# Altium footprint library BGA (1.27mm Pitch, Square5).PcbLib: 12 footprints (part 2 of 6)
Each footprint in its own frame and in the unit in brackets; x right, y up, seen from the top. Pads: shape width x height; smd on the part's side, far side on the other; paste and mask are expansions set on the pad; w line width, h text height; cw(c..) or ccw(c..) is an arc to the next point about the centre after c.
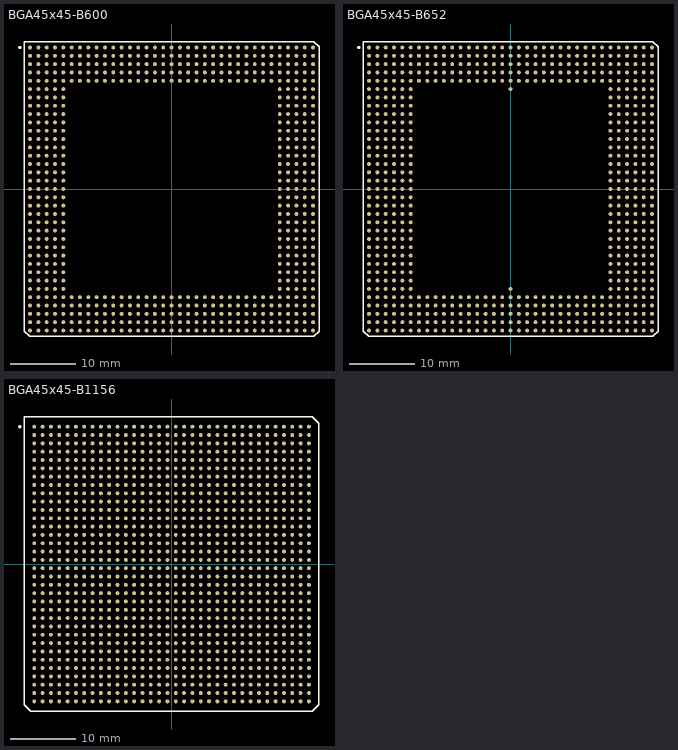
[diagram p1: the footprints below, top view; thin cyan lines are the x and y axes]

## BGA45x45-B600 [mm] "BGA; 600 Balls; Body 45 x 45 mm; Pitch 1.27 mm"
height 1.7
pads (600):
  round 0.6 smd: A1(-21.59,21.59) A2(-20.32,21.59) A3(-19.05,21.59) A4(-17.78,21.59) A5(-16.51,21.59) A6(-15.24,21.59) A7(-13.97,21.59) A8(-12.7,21.59) A9(-11.43,21.59) A10(-10.16,21.59) A11(-8.89,21.59) A12(-7.62,21.59) A13(-6.35,21.59) A14(-5.08,21.59) A15(-3.81,21.59) A16(-2.54,21.59) A17(-1.27,21.59) A18(0,21.59) A19(1.27,21.59) A20(2.54,21.59) A21(3.81,21.59) A22(5.08,21.59) A23(6.35,21.59) A24(7.62,21.59) A25(8.89,21.59) A26(10.16,21.59) A27(11.43,21.59) A28(12.7,21.59) A29(13.97,21.59) A30(15.24,21.59) A31(16.51,21.59) A32(17.78,21.59) A33(19.05,21.59) A34(20.32,21.59) A35(21.59,21.59) AA1(-21.59,-3.81) AA2(-20.32,-3.81) AA3(-19.05,-3.81) AA4(-17.78,-3.81) AA5(-16.51,-3.81) AA31(16.51,-3.81) AA32(17.78,-3.81) AA33(19.05,-3.81) AA34(20.32,-3.81) AA35(21.59,-3.81) AB1(-21.59,-5.08) AB2(-20.32,-5.08) AB3(-19.05,-5.08) AB4(-17.78,-5.08) AB5(-16.51,-5.08) AB31(16.51,-5.08) AB32(17.78,-5.08) AB33(19.05,-5.08) AB34(20.32,-5.08) AB35(21.59,-5.08) AC1(-21.59,-6.35) AC2(-20.32,-6.35) AC3(-19.05,-6.35) AC4(-17.78,-6.35) AC5(-16.51,-6.35) AC31(16.51,-6.35) AC32(17.78,-6.35) AC33(19.05,-6.35) AC34(20.32,-6.35) AC35(21.59,-6.35) AD1(-21.59,-7.62) AD2(-20.32,-7.62) AD3(-19.05,-7.62) AD4(-17.78,-7.62) AD5(-16.51,-7.62) AD31(16.51,-7.62) AD32(17.78,-7.62) AD33(19.05,-7.62) AD34(20.32,-7.62) AD35(21.59,-7.62) AE1(-21.59,-8.89) AE2(-20.32,-8.89) AE3(-19.05,-8.89) AE4(-17.78,-8.89) AE5(-16.51,-8.89) AE31(16.51,-8.89) AE32(17.78,-8.89) AE33(19.05,-8.89) AE34(20.32,-8.89) AE35(21.59,-8.89) AF1(-21.59,-10.16) AF2(-20.32,-10.16) AF3(-19.05,-10.16) AF4(-17.78,-10.16) AF5(-16.51,-10.16) AF31(16.51,-10.16) AF32(17.78,-10.16) AF33(19.05,-10.16) AF34(20.32,-10.16) AF35(21.59,-10.16) AG1(-21.59,-11.43) AG2(-20.32,-11.43) AG3(-19.05,-11.43) AG4(-17.78,-11.43) AG5(-16.51,-11.43) AG31(16.51,-11.43) AG32(17.78,-11.43) AG33(19.05,-11.43) AG34(20.32,-11.43) AG35(21.59,-11.43) AH1(-21.59,-12.7) AH2(-20.32,-12.7) AH3(-19.05,-12.7) AH4(-17.78,-12.7) AH5(-16.51,-12.7) AH31(16.51,-12.7) AH32(17.78,-12.7) AH33(19.05,-12.7) AH34(20.32,-12.7) AH35(21.59,-12.7) AJ1(-21.59,-13.97) AJ2(-20.32,-13.97) AJ3(-19.05,-13.97) AJ4(-17.78,-13.97) AJ5(-16.51,-13.97) AJ31(16.51,-13.97) AJ32(17.78,-13.97) AJ33(19.05,-13.97) AJ34(20.32,-13.97) AJ35(21.59,-13.97) AK1(-21.59,-15.24) AK2(-20.32,-15.24) AK3(-19.05,-15.24) AK4(-17.78,-15.24) AK5(-16.51,-15.24) AK31(16.51,-15.24) AK32(17.78,-15.24) AK33(19.05,-15.24) AK34(20.32,-15.24) AK35(21.59,-15.24) AL1(-21.59,-16.51) AL2(-20.32,-16.51) AL3(-19.05,-16.51) AL4(-17.78,-16.51) AL5(-16.51,-16.51) AL6(-15.24,-16.51) AL7(-13.97,-16.51) AL8(-12.7,-16.51) AL9(-11.43,-16.51) AL10(-10.16,-16.51) AL11(-8.89,-16.51) AL12(-7.62,-16.51) AL13(-6.35,-16.51) AL14(-5.08,-16.51) AL15(-3.81,-16.51) AL16(-2.54,-16.51) AL17(-1.27,-16.51) AL18(0,-16.51) AL19(1.27,-16.51) AL20(2.54,-16.51) AL21(3.81,-16.51) AL22(5.08,-16.51) AL23(6.35,-16.51) AL24(7.62,-16.51) AL25(8.89,-16.51) AL26(10.16,-16.51) AL27(11.43,-16.51) AL28(12.7,-16.51) AL29(13.97,-16.51) AL30(15.24,-16.51) AL31(16.51,-16.51) AL32(17.78,-16.51) AL33(19.05,-16.51) AL34(20.32,-16.51) AL35(21.59,-16.51) AM1(-21.59,-17.78) AM2(-20.32,-17.78) AM3(-19.05,-17.78) AM4(-17.78,-17.78) AM5(-16.51,-17.78) AM6(-15.24,-17.78) AM7(-13.97,-17.78) AM8(-12.7,-17.78) AM9(-11.43,-17.78) AM10(-10.16,-17.78) AM11(-8.89,-17.78) AM12(-7.62,-17.78) AM13(-6.35,-17.78) AM14(-5.08,-17.78) AM15(-3.81,-17.78) AM16(-2.54,-17.78) AM17(-1.27,-17.78) AM18(0,-17.78) AM19(1.27,-17.78) AM20(2.54,-17.78) AM21(3.81,-17.78) AM22(5.08,-17.78) AM23(6.35,-17.78) AM24(7.62,-17.78) AM25(8.89,-17.78) AM26(10.16,-17.78) AM27(11.43,-17.78) AM28(12.7,-17.78) AM29(13.97,-17.78) AM30(15.24,-17.78) AM31(16.51,-17.78) AM32(17.78,-17.78) AM33(19.05,-17.78) AM34(20.32,-17.78) AM35(21.59,-17.78) AN1(-21.59,-19.05) AN2(-20.32,-19.05) AN3(-19.05,-19.05) AN4(-17.78,-19.05) AN5(-16.51,-19.05) AN6(-15.24,-19.05) AN7(-13.97,-19.05) AN8(-12.7,-19.05) AN9(-11.43,-19.05) AN10(-10.16,-19.05) AN11(-8.89,-19.05) AN12(-7.62,-19.05) AN13(-6.35,-19.05) AN14(-5.08,-19.05) AN15(-3.81,-19.05) AN16(-2.54,-19.05) AN17(-1.27,-19.05) AN18(0,-19.05) AN19(1.27,-19.05) AN20(2.54,-19.05) AN21(3.81,-19.05) AN22(5.08,-19.05) AN23(6.35,-19.05) AN24(7.62,-19.05) AN25(8.89,-19.05) AN26(10.16,-19.05) AN27(11.43,-19.05) AN28(12.7,-19.05) AN29(13.97,-19.05) AN30(15.24,-19.05) AN31(16.51,-19.05) AN32(17.78,-19.05) AN33(19.05,-19.05) AN34(20.32,-19.05) AN35(21.59,-19.05) AP1(-21.59,-20.32) AP2(-20.32,-20.32) AP3(-19.05,-20.32) AP4(-17.78,-20.32) AP5(-16.51,-20.32) AP6(-15.24,-20.32) AP7(-13.97,-20.32) AP8(-12.7,-20.32) AP9(-11.43,-20.32) AP10(-10.16,-20.32) AP11(-8.89,-20.32) AP12(-7.62,-20.32) AP13(-6.35,-20.32) AP14(-5.08,-20.32) AP15(-3.81,-20.32) AP16(-2.54,-20.32) AP17(-1.27,-20.32) AP18(0,-20.32) AP19(1.27,-20.32) AP20(2.54,-20.32) AP21(3.81,-20.32) AP22(5.08,-20.32) AP23(6.35,-20.32) AP24(7.62,-20.32) AP25(8.89,-20.32) AP26(10.16,-20.32) AP27(11.43,-20.32) AP28(12.7,-20.32) AP29(13.97,-20.32) AP30(15.24,-20.32) AP31(16.51,-20.32) AP32(17.78,-20.32) AP33(19.05,-20.32) AP34(20.32,-20.32) AP35(21.59,-20.32) AR1(-21.59,-21.59) AR2(-20.32,-21.59) AR3(-19.05,-21.59) AR4(-17.78,-21.59) AR5(-16.51,-21.59) AR6(-15.24,-21.59) AR7(-13.97,-21.59) AR8(-12.7,-21.59) AR9(-11.43,-21.59) AR10(-10.16,-21.59) AR11(-8.89,-21.59) AR12(-7.62,-21.59) AR13(-6.35,-21.59) AR14(-5.08,-21.59) AR15(-3.81,-21.59) AR16(-2.54,-21.59) AR17(-1.27,-21.59) AR18(0,-21.59) AR19(1.27,-21.59) AR20(2.54,-21.59) AR21(3.81,-21.59) AR22(5.08,-21.59) AR23(6.35,-21.59) AR24(7.62,-21.59) AR25(8.89,-21.59) AR26(10.16,-21.59) AR27(11.43,-21.59) AR28(12.7,-21.59) AR29(13.97,-21.59) AR30(15.24,-21.59) AR31(16.51,-21.59) AR32(17.78,-21.59) AR33(19.05,-21.59) AR34(20.32,-21.59) AR35(21.59,-21.59) B1(-21.59,20.32) B2(-20.32,20.32) B3(-19.05,20.32) B4(-17.78,20.32) B5(-16.51,20.32) B6(-15.24,20.32) B7(-13.97,20.32) B8(-12.7,20.32) B9(-11.43,20.32) B10(-10.16,20.32) B11(-8.89,20.32) B12(-7.62,20.32) B13(-6.35,20.32) B14(-5.08,20.32) B15(-3.81,20.32) B16(-2.54,20.32) B17(-1.27,20.32) B18(0,20.32) B19(1.27,20.32) B20(2.54,20.32) B21(3.81,20.32) B22(5.08,20.32) B23(6.35,20.32) B24(7.62,20.32) B25(8.89,20.32) B26(10.16,20.32) B27(11.43,20.32) B28(12.7,20.32) B29(13.97,20.32) B30(15.24,20.32) B31(16.51,20.32) B32(17.78,20.32) B33(19.05,20.32) B34(20.32,20.32) B35(21.59,20.32) C1(-21.59,19.05) C2(-20.32,19.05) C3(-19.05,19.05) C4(-17.78,19.05) C5(-16.51,19.05) C6(-15.24,19.05) C7(-13.97,19.05) C8(-12.7,19.05) C9(-11.43,19.05) C10(-10.16,19.05) C11(-8.89,19.05) C12(-7.62,19.05) C13(-6.35,19.05) C14(-5.08,19.05) C15(-3.81,19.05) C16(-2.54,19.05) C17(-1.27,19.05) C18(0,19.05) C19(1.27,19.05) C20(2.54,19.05) C21(3.81,19.05) C22(5.08,19.05) C23(6.35,19.05) C24(7.62,19.05) C25(8.89,19.05) C26(10.16,19.05) C27(11.43,19.05) C28(12.7,19.05) C29(13.97,19.05) C30(15.24,19.05) C31(16.51,19.05) C32(17.78,19.05) C33(19.05,19.05) C34(20.32,19.05) C35(21.59,19.05) D1(-21.59,17.78) D2(-20.32,17.78) D3(-19.05,17.78) D4(-17.78,17.78) D5(-16.51,17.78) D6(-15.24,17.78) D7(-13.97,17.78) D8(-12.7,17.78) D9(-11.43,17.78) D10(-10.16,17.78) D11(-8.89,17.78) D12(-7.62,17.78) D13(-6.35,17.78) D14(-5.08,17.78) D15(-3.81,17.78) D16(-2.54,17.78) D17(-1.27,17.78) D18(0,17.78) D19(1.27,17.78) D20(2.54,17.78) D21(3.81,17.78) D22(5.08,17.78) D23(6.35,17.78) D24(7.62,17.78) D25(8.89,17.78) D26(10.16,17.78) D27(11.43,17.78) D28(12.7,17.78) D29(13.97,17.78) D30(15.24,17.78) D31(16.51,17.78) D32(17.78,17.78) D33(19.05,17.78) D34(20.32,17.78) D35(21.59,17.78) E1(-21.59,16.51) E2(-20.32,16.51) E3(-19.05,16.51) E4(-17.78,16.51) E5(-16.51,16.51) E6(-15.24,16.51) E7(-13.97,16.51) E8(-12.7,16.51) E9(-11.43,16.51) E10(-10.16,16.51) E11(-8.89,16.51) E12(-7.62,16.51) E13(-6.35,16.51) E14(-5.08,16.51) E15(-3.81,16.51) E16(-2.54,16.51) E17(-1.27,16.51) E18(0,16.51) E19(1.27,16.51) E20(2.54,16.51) E21(3.81,16.51) E22(5.08,16.51) E23(6.35,16.51) E24(7.62,16.51) E25(8.89,16.51) E26(10.16,16.51) E27(11.43,16.51) E28(12.7,16.51) E29(13.97,16.51) E30(15.24,16.51) E31(16.51,16.51) E32(17.78,16.51) E33(19.05,16.51) E34(20.32,16.51) E35(21.59,16.51) F1(-21.59,15.24) F2(-20.32,15.24) F3(-19.05,15.24) F4(-17.78,15.24) F5(-16.51,15.24) F31(16.51,15.24) F32(17.78,15.24) F33(19.05,15.24) F34(20.32,15.24) F35(21.59,15.24) G1(-21.59,13.97) G2(-20.32,13.97) G3(-19.05,13.97) G4(-17.78,13.97) G5(-16.51,13.97) G31(16.51,13.97) G32(17.78,13.97) G33(19.05,13.97) G34(20.32,13.97) G35(21.59,13.97) H1(-21.59,12.7) H2(-20.32,12.7) H3(-19.05,12.7) H4(-17.78,12.7) H5(-16.51,12.7) H31(16.51,12.7) H32(17.78,12.7) H33(19.05,12.7) H34(20.32,12.7) H35(21.59,12.7) J1(-21.59,11.43) J2(-20.32,11.43) J3(-19.05,11.43) J4(-17.78,11.43) J5(-16.51,11.43) J31(16.51,11.43) J32(17.78,11.43) J33(19.05,11.43) J34(20.32,11.43) J35(21.59,11.43) K1(-21.59,10.16) K2(-20.32,10.16) K3(-19.05,10.16) K4(-17.78,10.16) K5(-16.51,10.16) K31(16.51,10.16) K32(17.78,10.16) K33(19.05,10.16) K34(20.32,10.16) K35(21.59,10.16) L1(-21.59,8.89) L2(-20.32,8.89) L3(-19.05,8.89) L4(-17.78,8.89) L5(-16.51,8.89) L31(16.51,8.89) L32(17.78,8.89) L33(19.05,8.89) L34(20.32,8.89) L35(21.59,8.89) M1(-21.59,7.62) M2(-20.32,7.62) M3(-19.05,7.62) M4(-17.78,7.62) M5(-16.51,7.62) M31(16.51,7.62) M32(17.78,7.62) M33(19.05,7.62) M34(20.32,7.62) M35(21.59,7.62) N1(-21.59,6.35) N2(-20.32,6.35) N3(-19.05,6.35) N4(-17.78,6.35) N5(-16.51,6.35) N31(16.51,6.35) N32(17.78,6.35) N33(19.05,6.35) N34(20.32,6.35) N35(21.59,6.35) P1(-21.59,5.08) P2(-20.32,5.08) P3(-19.05,5.08) P4(-17.78,5.08) P5(-16.51,5.08) P31(16.51,5.08) P32(17.78,5.08) P33(19.05,5.08) P34(20.32,5.08) P35(21.59,5.08) R1(-21.59,3.81) R2(-20.32,3.81) R3(-19.05,3.81) R4(-17.78,3.81) R5(-16.51,3.81) R31(16.51,3.81) R32(17.78,3.81) R33(19.05,3.81) R34(20.32,3.81) R35(21.59,3.81) T1(-21.59,2.54) T2(-20.32,2.54) T3(-19.05,2.54) T4(-17.78,2.54) T5(-16.51,2.54) T31(16.51,2.54) T32(17.78,2.54) T33(19.05,2.54) T34(20.32,2.54) T35(21.59,2.54) U1(-21.59,1.27) U2(-20.32,1.27) U3(-19.05,1.27) U4(-17.78,1.27) U5(-16.51,1.27) U31(16.51,1.27) U32(17.78,1.27) U33(19.05,1.27) U34(20.32,1.27) U35(21.59,1.27) V1(-21.59,0) V2(-20.32,0) V3(-19.05,0) V4(-17.78,0) V5(-16.51,0) V31(16.51,0) V32(17.78,0) V33(19.05,0) V34(20.32,0) V35(21.59,0) W1(-21.59,-1.27) W2(-20.32,-1.27) W3(-19.05,-1.27) W4(-17.78,-1.27) W5(-16.51,-1.27) W31(16.51,-1.27) W32(17.78,-1.27) W33(19.05,-1.27) W34(20.32,-1.27) W35(21.59,-1.27) Y1(-21.59,-2.54) Y2(-20.32,-2.54) Y3(-19.05,-2.54) Y4(-17.78,-2.54) Y5(-16.51,-2.54) Y31(16.51,-2.54) Y32(17.78,-2.54) Y33(19.05,-2.54) Y34(20.32,-2.54) Y35(21.59,-2.54)
Top Overlay:
  circle w0.25: c-23.15,21.59 r0.125
  lines w0.2: -22.5,-21.67 -21.67,-22.5 21.67,-22.5 22.5,-21.67 22.5,21.67 21.67,22.5 -22.5,22.5 -22.5,-21.67

## BGA45x45-B652 [mm] "652-Pin Non-Thermally Enhanced Ball-Grid Array (BGA) Cavity Up"
height 3.2
pads (652):
  round 0.6 smd: A1(-21.59,21.59) A2(-20.32,21.59) A3(-19.05,21.59) A4(-17.78,21.59) A5(-16.51,21.59) A6(-15.24,21.59) A7(-13.97,21.59) A8(-12.7,21.59) A9(-11.43,21.59) A10(-10.16,21.59) A11(-8.89,21.59) A12(-7.62,21.59) A13(-6.35,21.59) A14(-5.08,21.59) A15(-3.81,21.59) A16(-2.54,21.59) A17(-1.27,21.59) A18(0,21.59) A19(1.27,21.59) A20(2.54,21.59) A21(3.81,21.59) A22(5.08,21.59) A23(6.35,21.59) A24(7.62,21.59) A25(8.89,21.59) A26(10.16,21.59) A27(11.43,21.59) A28(12.7,21.59) A29(13.97,21.59) A30(15.24,21.59) A31(16.51,21.59) A32(17.78,21.59) A33(19.05,21.59) A34(20.32,21.59) A35(21.59,21.59) AA1(-21.59,-3.81) AA2(-20.32,-3.81) AA3(-19.05,-3.81) AA4(-17.78,-3.81) AA5(-16.51,-3.81) AA6(-15.24,-3.81) AA30(15.24,-3.81) AA31(16.51,-3.81) AA32(17.78,-3.81) AA33(19.05,-3.81) AA34(20.32,-3.81) AA35(21.59,-3.81) AB1(-21.59,-5.08) AB2(-20.32,-5.08) AB3(-19.05,-5.08) AB4(-17.78,-5.08) AB5(-16.51,-5.08) AB6(-15.24,-5.08) AB30(15.24,-5.08) AB31(16.51,-5.08) AB32(17.78,-5.08) AB33(19.05,-5.08) AB34(20.32,-5.08) AB35(21.59,-5.08) AC1(-21.59,-6.35) AC2(-20.32,-6.35) AC3(-19.05,-6.35) AC4(-17.78,-6.35) AC5(-16.51,-6.35) AC6(-15.24,-6.35) AC30(15.24,-6.35) AC31(16.51,-6.35) AC32(17.78,-6.35) AC33(19.05,-6.35) AC34(20.32,-6.35) AC35(21.59,-6.35) AD1(-21.59,-7.62) AD2(-20.32,-7.62) AD3(-19.05,-7.62) AD4(-17.78,-7.62) AD5(-16.51,-7.62) AD6(-15.24,-7.62) AD30(15.24,-7.62) AD31(16.51,-7.62) AD32(17.78,-7.62) AD33(19.05,-7.62) AD34(20.32,-7.62) AD35(21.59,-7.62) AE1(-21.59,-8.89) AE2(-20.32,-8.89) AE3(-19.05,-8.89) AE4(-17.78,-8.89) AE5(-16.51,-8.89) AE6(-15.24,-8.89) AE30(15.24,-8.89) AE31(16.51,-8.89) AE32(17.78,-8.89) AE33(19.05,-8.89) AE34(20.32,-8.89) AE35(21.59,-8.89) AF1(-21.59,-10.16) AF2(-20.32,-10.16) AF3(-19.05,-10.16) AF4(-17.78,-10.16) AF5(-16.51,-10.16) AF6(-15.24,-10.16) AF30(15.24,-10.16) AF31(16.51,-10.16) AF32(17.78,-10.16) AF33(19.05,-10.16) AF34(20.32,-10.16) AF35(21.59,-10.16) AG1(-21.59,-11.43) AG2(-20.32,-11.43) AG3(-19.05,-11.43) AG4(-17.78,-11.43) AG5(-16.51,-11.43) AG6(-15.24,-11.43) AG30(15.24,-11.43) AG31(16.51,-11.43) AG32(17.78,-11.43) AG33(19.05,-11.43) AG34(20.32,-11.43) AG35(21.59,-11.43) AH1(-21.59,-12.7) AH2(-20.32,-12.7) AH3(-19.05,-12.7) AH4(-17.78,-12.7) AH5(-16.51,-12.7) AH6(-15.24,-12.7) AH30(15.24,-12.7) AH31(16.51,-12.7) AH32(17.78,-12.7) AH33(19.05,-12.7) AH34(20.32,-12.7) AH35(21.59,-12.7) AJ1(-21.59,-13.97) AJ2(-20.32,-13.97) AJ3(-19.05,-13.97) AJ4(-17.78,-13.97) AJ5(-16.51,-13.97) AJ6(-15.24,-13.97) AJ30(15.24,-13.97) AJ31(16.51,-13.97) AJ32(17.78,-13.97) AJ33(19.05,-13.97) AJ34(20.32,-13.97) AJ35(21.59,-13.97) AK1(-21.59,-15.24) AK2(-20.32,-15.24) AK3(-19.05,-15.24) AK4(-17.78,-15.24) AK5(-16.51,-15.24) AK6(-15.24,-15.24) AK18(0,-15.24) AK30(15.24,-15.24) AK31(16.51,-15.24) AK32(17.78,-15.24) AK33(19.05,-15.24) AK34(20.32,-15.24) AK35(21.59,-15.24) AL1(-21.59,-16.51) AL2(-20.32,-16.51) AL3(-19.05,-16.51) AL4(-17.78,-16.51) AL5(-16.51,-16.51) AL6(-15.24,-16.51) AL7(-13.97,-16.51) AL8(-12.7,-16.51) AL9(-11.43,-16.51) AL10(-10.16,-16.51) AL11(-8.89,-16.51) AL12(-7.62,-16.51) AL13(-6.35,-16.51) AL14(-5.08,-16.51) AL15(-3.81,-16.51) AL16(-2.54,-16.51) AL17(-1.27,-16.51) AL18(0,-16.51) AL19(1.27,-16.51) AL20(2.54,-16.51) AL21(3.81,-16.51) AL22(5.08,-16.51) AL23(6.35,-16.51) AL24(7.62,-16.51) AL25(8.89,-16.51) AL26(10.16,-16.51) AL27(11.43,-16.51) AL28(12.7,-16.51) AL29(13.97,-16.51) AL30(15.24,-16.51) AL31(16.51,-16.51) AL32(17.78,-16.51) AL33(19.05,-16.51) AL34(20.32,-16.51) AL35(21.59,-16.51) AM1(-21.59,-17.78) AM2(-20.32,-17.78) AM3(-19.05,-17.78) AM4(-17.78,-17.78) AM5(-16.51,-17.78) AM6(-15.24,-17.78) AM7(-13.97,-17.78) AM8(-12.7,-17.78) AM9(-11.43,-17.78) AM10(-10.16,-17.78) AM11(-8.89,-17.78) AM12(-7.62,-17.78) AM13(-6.35,-17.78) AM14(-5.08,-17.78) AM15(-3.81,-17.78) AM16(-2.54,-17.78) AM17(-1.27,-17.78) AM18(0,-17.78) AM19(1.27,-17.78) AM20(2.54,-17.78) AM21(3.81,-17.78) AM22(5.08,-17.78) AM23(6.35,-17.78) AM24(7.62,-17.78) AM25(8.89,-17.78) AM26(10.16,-17.78) AM27(11.43,-17.78) AM28(12.7,-17.78) AM29(13.97,-17.78) AM30(15.24,-17.78) AM31(16.51,-17.78) AM32(17.78,-17.78) AM33(19.05,-17.78) AM34(20.32,-17.78) AM35(21.59,-17.78) AN1(-21.59,-19.05) AN2(-20.32,-19.05) AN3(-19.05,-19.05) AN4(-17.78,-19.05) AN5(-16.51,-19.05) AN6(-15.24,-19.05) AN7(-13.97,-19.05) AN8(-12.7,-19.05) AN9(-11.43,-19.05) AN10(-10.16,-19.05) AN11(-8.89,-19.05) AN12(-7.62,-19.05) AN13(-6.35,-19.05) AN14(-5.08,-19.05) AN15(-3.81,-19.05) AN16(-2.54,-19.05) AN17(-1.27,-19.05) AN18(0,-19.05) AN19(1.27,-19.05) AN20(2.54,-19.05) AN21(3.81,-19.05) AN22(5.08,-19.05) AN23(6.35,-19.05) AN24(7.62,-19.05) AN25(8.89,-19.05) AN26(10.16,-19.05) AN27(11.43,-19.05) AN28(12.7,-19.05) AN29(13.97,-19.05) AN30(15.24,-19.05) AN31(16.51,-19.05) AN32(17.78,-19.05) AN33(19.05,-19.05) AN34(20.32,-19.05) AN35(21.59,-19.05) AP1(-21.59,-20.32) AP2(-20.32,-20.32) AP3(-19.05,-20.32) AP4(-17.78,-20.32) AP5(-16.51,-20.32) AP6(-15.24,-20.32) AP7(-13.97,-20.32) AP8(-12.7,-20.32) AP9(-11.43,-20.32) AP10(-10.16,-20.32) AP11(-8.89,-20.32) AP12(-7.62,-20.32) AP13(-6.35,-20.32) AP14(-5.08,-20.32) AP15(-3.81,-20.32) AP16(-2.54,-20.32) AP17(-1.27,-20.32) AP18(0,-20.32) AP19(1.27,-20.32) AP20(2.54,-20.32) AP21(3.81,-20.32) AP22(5.08,-20.32) AP23(6.35,-20.32) AP24(7.62,-20.32) AP25(8.89,-20.32) AP26(10.16,-20.32) AP27(11.43,-20.32) AP28(12.7,-20.32) AP29(13.97,-20.32) AP30(15.24,-20.32) AP31(16.51,-20.32) AP32(17.78,-20.32) AP33(19.05,-20.32) AP34(20.32,-20.32) AP35(21.59,-20.32) AR1(-21.59,-21.59) AR2(-20.32,-21.59) AR3(-19.05,-21.59) AR4(-17.78,-21.59) AR5(-16.51,-21.59) AR6(-15.24,-21.59) AR7(-13.97,-21.59) AR8(-12.7,-21.59) AR9(-11.43,-21.59) AR10(-10.16,-21.59) AR11(-8.89,-21.59) AR12(-7.62,-21.59) AR13(-6.35,-21.59) AR14(-5.08,-21.59) AR15(-3.81,-21.59) AR16(-2.54,-21.59) AR17(-1.27,-21.59) AR18(0,-21.59) AR19(1.27,-21.59) AR20(2.54,-21.59) AR21(3.81,-21.59) AR22(5.08,-21.59) AR23(6.35,-21.59) AR24(7.62,-21.59) AR25(8.89,-21.59) AR26(10.16,-21.59) AR27(11.43,-21.59) AR28(12.7,-21.59) AR29(13.97,-21.59) AR30(15.24,-21.59) AR31(16.51,-21.59) AR32(17.78,-21.59) AR33(19.05,-21.59) AR34(20.32,-21.59) AR35(21.59,-21.59) B1(-21.59,20.32) B2(-20.32,20.32) B3(-19.05,20.32) B4(-17.78,20.32) B5(-16.51,20.32) B6(-15.24,20.32) B7(-13.97,20.32) B8(-12.7,20.32) B9(-11.43,20.32) B10(-10.16,20.32) B11(-8.89,20.32) B12(-7.62,20.32) B13(-6.35,20.32) B14(-5.08,20.32) B15(-3.81,20.32) B16(-2.54,20.32) B17(-1.27,20.32) B18(0,20.32) B19(1.27,20.32) B20(2.54,20.32) B21(3.81,20.32) B22(5.08,20.32) B23(6.35,20.32) B24(7.62,20.32) B25(8.89,20.32) B26(10.16,20.32) B27(11.43,20.32) B28(12.7,20.32) B29(13.97,20.32) B30(15.24,20.32) B31(16.51,20.32) B32(17.78,20.32) B33(19.05,20.32) B34(20.32,20.32) B35(21.59,20.32) C1(-21.59,19.05) C2(-20.32,19.05) C3(-19.05,19.05) C4(-17.78,19.05) C5(-16.51,19.05) C6(-15.24,19.05) C7(-13.97,19.05) C8(-12.7,19.05) C9(-11.43,19.05) C10(-10.16,19.05) C11(-8.89,19.05) C12(-7.62,19.05) C13(-6.35,19.05) C14(-5.08,19.05) C15(-3.81,19.05) C16(-2.54,19.05) C17(-1.27,19.05) C18(0,19.05) C19(1.27,19.05) C20(2.54,19.05) C21(3.81,19.05) C22(5.08,19.05) C23(6.35,19.05) C24(7.62,19.05) C25(8.89,19.05) C26(10.16,19.05) C27(11.43,19.05) C28(12.7,19.05) C29(13.97,19.05) C30(15.24,19.05) C31(16.51,19.05) C32(17.78,19.05) C33(19.05,19.05) C34(20.32,19.05) C35(21.59,19.05) D1(-21.59,17.78) D2(-20.32,17.78) D3(-19.05,17.78) D4(-17.78,17.78) D5(-16.51,17.78) D6(-15.24,17.78) D7(-13.97,17.78) D8(-12.7,17.78) D9(-11.43,17.78) D10(-10.16,17.78) D11(-8.89,17.78) D12(-7.62,17.78) D13(-6.35,17.78) D14(-5.08,17.78) D15(-3.81,17.78) D16(-2.54,17.78) D17(-1.27,17.78) D18(0,17.78) D19(1.27,17.78) D20(2.54,17.78) D21(3.81,17.78) D22(5.08,17.78) D23(6.35,17.78) D24(7.62,17.78) D25(8.89,17.78) D26(10.16,17.78) D27(11.43,17.78) D28(12.7,17.78) D29(13.97,17.78) D30(15.24,17.78) D31(16.51,17.78) D32(17.78,17.78) D33(19.05,17.78) D34(20.32,17.78) D35(21.59,17.78) E1(-21.59,16.51) E2(-20.32,16.51) E3(-19.05,16.51) E4(-17.78,16.51) E5(-16.51,16.51) E6(-15.24,16.51) E7(-13.97,16.51) E8(-12.7,16.51) E9(-11.43,16.51) E10(-10.16,16.51) E11(-8.89,16.51) E12(-7.62,16.51) E13(-6.35,16.51) E14(-5.08,16.51) E15(-3.81,16.51) E16(-2.54,16.51) E17(-1.27,16.51) E18(0,16.51) E19(1.27,16.51) E20(2.54,16.51) E21(3.81,16.51) E22(5.08,16.51) E23(6.35,16.51) E24(7.62,16.51) E25(8.89,16.51) E26(10.16,16.51) E27(11.43,16.51) E28(12.7,16.51) E29(13.97,16.51) E30(15.24,16.51) E31(16.51,16.51) E32(17.78,16.51) E33(19.05,16.51) E34(20.32,16.51) E35(21.59,16.51) F1(-21.59,15.24) F2(-20.32,15.24) F3(-19.05,15.24) F4(-17.78,15.24) F5(-16.51,15.24) F6(-15.24,15.24) F18(0,15.24) F30(15.24,15.24) F31(16.51,15.24) F32(17.78,15.24) F33(19.05,15.24) F34(20.32,15.24) F35(21.59,15.24) G1(-21.59,13.97) G2(-20.32,13.97) G3(-19.05,13.97) G4(-17.78,13.97) G5(-16.51,13.97) G6(-15.24,13.97) G30(15.24,13.97) G31(16.51,13.97) G32(17.78,13.97) G33(19.05,13.97) G34(20.32,13.97) G35(21.59,13.97) H1(-21.59,12.7) H2(-20.32,12.7) H3(-19.05,12.7) H4(-17.78,12.7) H5(-16.51,12.7) H6(-15.24,12.7) H30(15.24,12.7) H31(16.51,12.7) H32(17.78,12.7) H33(19.05,12.7) H34(20.32,12.7) H35(21.59,12.7) J1(-21.59,11.43) J2(-20.32,11.43) J3(-19.05,11.43) J4(-17.78,11.43) J5(-16.51,11.43) J6(-15.24,11.43) J30(15.24,11.43) J31(16.51,11.43) J32(17.78,11.43) J33(19.05,11.43) J34(20.32,11.43) J35(21.59,11.43) K1(-21.59,10.16) K2(-20.32,10.16) K3(-19.05,10.16) K4(-17.78,10.16) K5(-16.51,10.16) K6(-15.24,10.16) K30(15.24,10.16) K31(16.51,10.16) K32(17.78,10.16) K33(19.05,10.16) K34(20.32,10.16) K35(21.59,10.16) L1(-21.59,8.89) L2(-20.32,8.89) L3(-19.05,8.89) L4(-17.78,8.89) L5(-16.51,8.89) L6(-15.24,8.89) L30(15.24,8.89) L31(16.51,8.89) L32(17.78,8.89) L33(19.05,8.89) L34(20.32,8.89) L35(21.59,8.89) M1(-21.59,7.62) M2(-20.32,7.62) M3(-19.05,7.62) M4(-17.78,7.62) M5(-16.51,7.62) M6(-15.24,7.62) M30(15.24,7.62) M31(16.51,7.62) M32(17.78,7.62) M33(19.05,7.62) M34(20.32,7.62) M35(21.59,7.62) N1(-21.59,6.35) N2(-20.32,6.35) N3(-19.05,6.35) N4(-17.78,6.35) N5(-16.51,6.35) N6(-15.24,6.35) N30(15.24,6.35) N31(16.51,6.35) N32(17.78,6.35) N33(19.05,6.35) N34(20.32,6.35) N35(21.59,6.35) P1(-21.59,5.08) P2(-20.32,5.08) P3(-19.05,5.08) P4(-17.78,5.08) P5(-16.51,5.08) P6(-15.24,5.08) P30(15.24,5.08) P31(16.51,5.08) P32(17.78,5.08) P33(19.05,5.08) P34(20.32,5.08) P35(21.59,5.08) R1(-21.59,3.81) R2(-20.32,3.81) R3(-19.05,3.81) R4(-17.78,3.81) R5(-16.51,3.81) R6(-15.24,3.81) R30(15.24,3.81) R31(16.51,3.81) R32(17.78,3.81) R33(19.05,3.81) R34(20.32,3.81) R35(21.59,3.81) T1(-21.59,2.54) T2(-20.32,2.54) T3(-19.05,2.54) T4(-17.78,2.54) T5(-16.51,2.54) T6(-15.24,2.54) T30(15.24,2.54) T31(16.51,2.54) T32(17.78,2.54) T33(19.05,2.54) T34(20.32,2.54) T35(21.59,2.54) U1(-21.59,1.27) U2(-20.32,1.27) U3(-19.05,1.27) U4(-17.78,1.27) U5(-16.51,1.27) U6(-15.24,1.27) U30(15.24,1.27) U31(16.51,1.27) U32(17.78,1.27) U33(19.05,1.27) U34(20.32,1.27) U35(21.59,1.27) V1(-21.59,0) V2(-20.32,0) V3(-19.05,0) V4(-17.78,0) V5(-16.51,0) V6(-15.24,0) V30(15.24,0) V31(16.51,0) V32(17.78,0) V33(19.05,0) V34(20.32,0) V35(21.59,0) W1(-21.59,-1.27) W2(-20.32,-1.27) W3(-19.05,-1.27) W4(-17.78,-1.27) W5(-16.51,-1.27) W6(-15.24,-1.27) W30(15.24,-1.27) W31(16.51,-1.27) W32(17.78,-1.27) W33(19.05,-1.27) W34(20.32,-1.27) W35(21.59,-1.27) Y1(-21.59,-2.54) Y2(-20.32,-2.54) Y3(-19.05,-2.54) Y4(-17.78,-2.54) Y5(-16.51,-2.54) Y6(-15.24,-2.54) Y30(15.24,-2.54) Y31(16.51,-2.54) Y32(17.78,-2.54) Y33(19.05,-2.54) Y34(20.32,-2.54) Y35(21.59,-2.54)
Top Overlay:
  circle w0.25: c-23.15,21.59 r0.125
  lines w0.2: -22.5,-21.67 -22.5,22.5 21.67,22.5 22.5,21.67 22.5,-21.67 21.67,-22.5 -21.67,-22.5 -22.5,-21.67

## BGA45x45-B1156 [mm] "BGA; 1156 Balls; Body 45 x 45 mm; Pitch 1.27 mm"
height 3.5
pads (1156):
  round 0.6 smd: A1(-20.955,20.955) A2(-19.685,20.955) A3(-18.415,20.955) A4(-17.145,20.955) A5(-15.875,20.955) A6(-14.605,20.955) A7(-13.335,20.955) A8(-12.065,20.955) A9(-10.795,20.955) A10(-9.525,20.955) A11(-8.255,20.955) A12(-6.985,20.955) A13(-5.715,20.955) A14(-4.445,20.955) A15(-3.175,20.955) A16(-1.905,20.955) A17(-0.635,20.955) A18(0.635,20.955) A19(1.905,20.955) A20(3.175,20.955) A21(4.445,20.955) A22(5.715,20.955) A23(6.985,20.955) A24(8.255,20.955) A25(9.525,20.955) A26(10.795,20.955) A27(12.065,20.955) A28(13.335,20.955) A29(14.605,20.955) A30(15.875,20.955) A31(17.145,20.955) A32(18.415,20.955) A33(19.685,20.955) A34(20.955,20.955) AA1(-20.955,-4.445) AA2(-19.685,-4.445) AA3(-18.415,-4.445) AA4(-17.145,-4.445) AA5(-15.875,-4.445) AA6(-14.605,-4.445) AA7(-13.335,-4.445) AA8(-12.065,-4.445) AA9(-10.795,-4.445) AA10(-9.525,-4.445) AA11(-8.255,-4.445) AA12(-6.985,-4.445) AA13(-5.715,-4.445) AA14(-4.445,-4.445) AA15(-3.175,-4.445) AA16(-1.905,-4.445) AA17(-0.635,-4.445) AA18(0.635,-4.445) AA19(1.905,-4.445) AA20(3.175,-4.445) AA21(4.445,-4.445) AA22(5.715,-4.445) AA23(6.985,-4.445) AA24(8.255,-4.445) AA25(9.525,-4.445) AA26(10.795,-4.445) AA27(12.065,-4.445) AA28(13.335,-4.445) AA29(14.605,-4.445) AA30(15.875,-4.445) AA31(17.145,-4.445) AA32(18.415,-4.445) AA33(19.685,-4.445) AA34(20.955,-4.445) AB1(-20.955,-5.715) AB2(-19.685,-5.715) AB3(-18.415,-5.715) AB4(-17.145,-5.715) AB5(-15.875,-5.715) AB6(-14.605,-5.715) AB7(-13.335,-5.715) AB8(-12.065,-5.715) AB9(-10.795,-5.715) AB10(-9.525,-5.715) AB11(-8.255,-5.715) AB12(-6.985,-5.715) AB13(-5.715,-5.715) AB14(-4.445,-5.715) AB15(-3.175,-5.715) AB16(-1.905,-5.715) AB17(-0.635,-5.715) AB18(0.635,-5.715) AB19(1.905,-5.715) AB20(3.175,-5.715) AB21(4.445,-5.715) AB22(5.715,-5.715) AB23(6.985,-5.715) AB24(8.255,-5.715) AB25(9.525,-5.715) AB26(10.795,-5.715) AB27(12.065,-5.715) AB28(13.335,-5.715) AB29(14.605,-5.715) AB30(15.875,-5.715) AB31(17.145,-5.715) AB32(18.415,-5.715) AB33(19.685,-5.715) AB34(20.955,-5.715) AC1(-20.955,-6.985) AC2(-19.685,-6.985) AC3(-18.415,-6.985) AC4(-17.145,-6.985) AC5(-15.875,-6.985) AC6(-14.605,-6.985) AC7(-13.335,-6.985) AC8(-12.065,-6.985) AC9(-10.795,-6.985) AC10(-9.525,-6.985) AC11(-8.255,-6.985) AC12(-6.985,-6.985) AC13(-5.715,-6.985) AC14(-4.445,-6.985) AC15(-3.175,-6.985) AC16(-1.905,-6.985) AC17(-0.635,-6.985) AC18(0.635,-6.985) AC19(1.905,-6.985) AC20(3.175,-6.985) AC21(4.445,-6.985) AC22(5.715,-6.985) AC23(6.985,-6.985) AC24(8.255,-6.985) AC25(9.525,-6.985) AC26(10.795,-6.985) AC27(12.065,-6.985) AC28(13.335,-6.985) AC29(14.605,-6.985) AC30(15.875,-6.985) AC31(17.145,-6.985) AC32(18.415,-6.985) AC33(19.685,-6.985) AC34(20.955,-6.985) AD1(-20.955,-8.255) AD2(-19.685,-8.255) AD3(-18.415,-8.255) AD4(-17.145,-8.255) AD5(-15.875,-8.255) AD6(-14.605,-8.255) AD7(-13.335,-8.255) AD8(-12.065,-8.255) AD9(-10.795,-8.255) AD10(-9.525,-8.255) AD11(-8.255,-8.255) AD12(-6.985,-8.255) AD13(-5.715,-8.255) AD14(-4.445,-8.255) AD15(-3.175,-8.255) AD16(-1.905,-8.255) AD17(-0.635,-8.255) AD18(0.635,-8.255) AD19(1.905,-8.255) AD20(3.175,-8.255) AD21(4.445,-8.255) AD22(5.715,-8.255) AD23(6.985,-8.255) AD24(8.255,-8.255) AD25(9.525,-8.255) AD26(10.795,-8.255) AD27(12.065,-8.255) AD28(13.335,-8.255) AD29(14.605,-8.255) AD30(15.875,-8.255) AD31(17.145,-8.255) AD32(18.415,-8.255) AD33(19.685,-8.255) AD34(20.955,-8.255) AE1(-20.955,-9.525) AE2(-19.685,-9.525) AE3(-18.415,-9.525) AE4(-17.145,-9.525) AE5(-15.875,-9.525) AE6(-14.605,-9.525) AE7(-13.335,-9.525) AE8(-12.065,-9.525) AE9(-10.795,-9.525) AE10(-9.525,-9.525) AE11(-8.255,-9.525) AE12(-6.985,-9.525) AE13(-5.715,-9.525) AE14(-4.445,-9.525) AE15(-3.175,-9.525) AE16(-1.905,-9.525) AE17(-0.635,-9.525) AE18(0.635,-9.525) AE19(1.905,-9.525) AE20(3.175,-9.525) AE21(4.445,-9.525) AE22(5.715,-9.525) AE23(6.985,-9.525) AE24(8.255,-9.525) AE25(9.525,-9.525) AE26(10.795,-9.525) AE27(12.065,-9.525) AE28(13.335,-9.525) AE29(14.605,-9.525) AE30(15.875,-9.525) AE31(17.145,-9.525) AE32(18.415,-9.525) AE33(19.685,-9.525) AE34(20.955,-9.525) AF1(-20.955,-10.795) AF2(-19.685,-10.795) AF3(-18.415,-10.795) AF4(-17.145,-10.795) AF5(-15.875,-10.795) AF6(-14.605,-10.795) AF7(-13.335,-10.795) AF8(-12.065,-10.795) AF9(-10.795,-10.795) AF10(-9.525,-10.795) AF11(-8.255,-10.795) AF12(-6.985,-10.795) AF13(-5.715,-10.795) AF14(-4.445,-10.795) AF15(-3.175,-10.795) AF16(-1.905,-10.795) AF17(-0.635,-10.795) AF18(0.635,-10.795) AF19(1.905,-10.795) AF20(3.175,-10.795) AF21(4.445,-10.795) AF22(5.715,-10.795) AF23(6.985,-10.795) AF24(8.255,-10.795) AF25(9.525,-10.795) AF26(10.795,-10.795) AF27(12.065,-10.795) AF28(13.335,-10.795) AF29(14.605,-10.795) AF30(15.875,-10.795) AF31(17.145,-10.795) AF32(18.415,-10.795) AF33(19.685,-10.795) AF34(20.955,-10.795) AG1(-20.955,-12.065) AG2(-19.685,-12.065) AG3(-18.415,-12.065) AG4(-17.145,-12.065) AG5(-15.875,-12.065) AG6(-14.605,-12.065) AG7(-13.335,-12.065) AG8(-12.065,-12.065) AG9(-10.795,-12.065) AG10(-9.525,-12.065) AG11(-8.255,-12.065) AG12(-6.985,-12.065) AG13(-5.715,-12.065) AG14(-4.445,-12.065) AG15(-3.175,-12.065) AG16(-1.905,-12.065) AG17(-0.635,-12.065) AG18(0.635,-12.065) AG19(1.905,-12.065) AG20(3.175,-12.065) AG21(4.445,-12.065) AG22(5.715,-12.065) AG23(6.985,-12.065) AG24(8.255,-12.065) AG25(9.525,-12.065) AG26(10.795,-12.065) AG27(12.065,-12.065) AG28(13.335,-12.065) AG29(14.605,-12.065) AG30(15.875,-12.065) AG31(17.145,-12.065) AG32(18.415,-12.065) AG33(19.685,-12.065) AG34(20.955,-12.065) AH1(-20.955,-13.335) AH2(-19.685,-13.335) AH3(-18.415,-13.335) AH4(-17.145,-13.335) AH5(-15.875,-13.335) AH6(-14.605,-13.335) AH7(-13.335,-13.335) AH8(-12.065,-13.335) AH9(-10.795,-13.335) AH10(-9.525,-13.335) AH11(-8.255,-13.335) AH12(-6.985,-13.335) AH13(-5.715,-13.335) AH14(-4.445,-13.335) AH15(-3.175,-13.335) AH16(-1.905,-13.335) AH17(-0.635,-13.335) AH18(0.635,-13.335) AH19(1.905,-13.335) AH20(3.175,-13.335) AH21(4.445,-13.335) AH22(5.715,-13.335) AH23(6.985,-13.335) AH24(8.255,-13.335) AH25(9.525,-13.335) AH26(10.795,-13.335) AH27(12.065,-13.335) AH28(13.335,-13.335) AH29(14.605,-13.335) AH30(15.875,-13.335) AH31(17.145,-13.335) AH32(18.415,-13.335) AH33(19.685,-13.335) AH34(20.955,-13.335) AJ1(-20.955,-14.605) AJ2(-19.685,-14.605) AJ3(-18.415,-14.605) AJ4(-17.145,-14.605) AJ5(-15.875,-14.605) AJ6(-14.605,-14.605) AJ7(-13.335,-14.605) AJ8(-12.065,-14.605) AJ9(-10.795,-14.605) AJ10(-9.525,-14.605) AJ11(-8.255,-14.605) AJ12(-6.985,-14.605) AJ13(-5.715,-14.605) AJ14(-4.445,-14.605) AJ15(-3.175,-14.605) AJ16(-1.905,-14.605) AJ17(-0.635,-14.605) AJ18(0.635,-14.605) AJ19(1.905,-14.605) AJ20(3.175,-14.605) AJ21(4.445,-14.605) AJ22(5.715,-14.605) AJ23(6.985,-14.605) AJ24(8.255,-14.605) AJ25(9.525,-14.605) AJ26(10.795,-14.605) AJ27(12.065,-14.605) AJ28(13.335,-14.605) AJ29(14.605,-14.605) AJ30(15.875,-14.605) AJ31(17.145,-14.605) AJ32(18.415,-14.605) AJ33(19.685,-14.605) AJ34(20.955,-14.605) AK1(-20.955,-15.875) AK2(-19.685,-15.875) AK3(-18.415,-15.875) AK4(-17.145,-15.875) AK5(-15.875,-15.875) AK6(-14.605,-15.875) AK7(-13.335,-15.875) AK8(-12.065,-15.875) AK9(-10.795,-15.875) AK10(-9.525,-15.875) AK11(-8.255,-15.875) AK12(-6.985,-15.875) AK13(-5.715,-15.875) AK14(-4.445,-15.875) AK15(-3.175,-15.875) AK16(-1.905,-15.875) AK17(-0.635,-15.875) AK18(0.635,-15.875) AK19(1.905,-15.875) AK20(3.175,-15.875) AK21(4.445,-15.875) AK22(5.715,-15.875) AK23(6.985,-15.875) AK24(8.255,-15.875) AK25(9.525,-15.875) AK26(10.795,-15.875) AK27(12.065,-15.875) AK28(13.335,-15.875) AK29(14.605,-15.875) AK30(15.875,-15.875) AK31(17.145,-15.875) AK32(18.415,-15.875) AK33(19.685,-15.875) AK34(20.955,-15.875) AL1(-20.955,-17.145) AL2(-19.685,-17.145) AL3(-18.415,-17.145) AL4(-17.145,-17.145) AL5(-15.875,-17.145) AL6(-14.605,-17.145) AL7(-13.335,-17.145) AL8(-12.065,-17.145) AL9(-10.795,-17.145) AL10(-9.525,-17.145) AL11(-8.255,-17.145) AL12(-6.985,-17.145) AL13(-5.715,-17.145) AL14(-4.445,-17.145) AL15(-3.175,-17.145) AL16(-1.905,-17.145) AL17(-0.635,-17.145) AL18(0.635,-17.145) AL19(1.905,-17.145) AL20(3.175,-17.145) AL21(4.445,-17.145) AL22(5.715,-17.145) AL23(6.985,-17.145) AL24(8.255,-17.145) AL25(9.525,-17.145) AL26(10.795,-17.145) AL27(12.065,-17.145) AL28(13.335,-17.145) AL29(14.605,-17.145) AL30(15.875,-17.145) AL31(17.145,-17.145) AL32(18.415,-17.145) AL33(19.685,-17.145) AL34(20.955,-17.145) AM1(-20.955,-18.415) AM2(-19.685,-18.415) AM3(-18.415,-18.415) AM4(-17.145,-18.415) AM5(-15.875,-18.415) AM6(-14.605,-18.415) AM7(-13.335,-18.415) AM8(-12.065,-18.415) AM9(-10.795,-18.415) AM10(-9.525,-18.415) AM11(-8.255,-18.415) AM12(-6.985,-18.415) AM13(-5.715,-18.415) AM14(-4.445,-18.415) AM15(-3.175,-18.415) AM16(-1.905,-18.415) AM17(-0.635,-18.415) AM18(0.635,-18.415) AM19(1.905,-18.415) AM20(3.175,-18.415) AM21(4.445,-18.415) AM22(5.715,-18.415) AM23(6.985,-18.415) AM24(8.255,-18.415) AM25(9.525,-18.415) AM26(10.795,-18.415) AM27(12.065,-18.415) AM28(13.335,-18.415) AM29(14.605,-18.415) AM30(15.875,-18.415) AM31(17.145,-18.415) AM32(18.415,-18.415) AM33(19.685,-18.415) AM34(20.955,-18.415) AN1(-20.955,-19.685) AN2(-19.685,-19.685) AN3(-18.415,-19.685) AN4(-17.145,-19.685) AN5(-15.875,-19.685) AN6(-14.605,-19.685) AN7(-13.335,-19.685) AN8(-12.065,-19.685) AN9(-10.795,-19.685) AN10(-9.525,-19.685) AN11(-8.255,-19.685) AN12(-6.985,-19.685) AN13(-5.715,-19.685) AN14(-4.445,-19.685) AN15(-3.175,-19.685) AN16(-1.905,-19.685) AN17(-0.635,-19.685) AN18(0.635,-19.685) AN19(1.905,-19.685) AN20(3.175,-19.685) AN21(4.445,-19.685) AN22(5.715,-19.685) AN23(6.985,-19.685) AN24(8.255,-19.685) AN25(9.525,-19.685) AN26(10.795,-19.685) AN27(12.065,-19.685) AN28(13.335,-19.685) AN29(14.605,-19.685) AN30(15.875,-19.685) AN31(17.145,-19.685) AN32(18.415,-19.685) AN33(19.685,-19.685) AN34(20.955,-19.685) AP1(-20.955,-20.955) AP2(-19.685,-20.955) AP3(-18.415,-20.955) AP4(-17.145,-20.955) AP5(-15.875,-20.955) AP6(-14.605,-20.955) AP7(-13.335,-20.955) AP8(-12.065,-20.955) AP9(-10.795,-20.955) AP10(-9.525,-20.955) AP11(-8.255,-20.955) AP12(-6.985,-20.955) AP13(-5.715,-20.955) AP14(-4.445,-20.955) AP15(-3.175,-20.955) AP16(-1.905,-20.955) AP17(-0.635,-20.955) AP18(0.635,-20.955) AP19(1.905,-20.955) AP20(3.175,-20.955) AP21(4.445,-20.955) AP22(5.715,-20.955) AP23(6.985,-20.955) AP24(8.255,-20.955) AP25(9.525,-20.955) AP26(10.795,-20.955) AP27(12.065,-20.955) AP28(13.335,-20.955) AP29(14.605,-20.955) AP30(15.875,-20.955) AP31(17.145,-20.955) AP32(18.415,-20.955) AP33(19.685,-20.955) AP34(20.955,-20.955) B1(-20.955,19.685) B2(-19.685,19.685) B3(-18.415,19.685) B4(-17.145,19.685) B5(-15.875,19.685) B6(-14.605,19.685) B7(-13.335,19.685) B8(-12.065,19.685) B9(-10.795,19.685) B10(-9.525,19.685) B11(-8.255,19.685) B12(-6.985,19.685) B13(-5.715,19.685) B14(-4.445,19.685) B15(-3.175,19.685) B16(-1.905,19.685) B17(-0.635,19.685) B18(0.635,19.685) B19(1.905,19.685) B20(3.175,19.685) B21(4.445,19.685) B22(5.715,19.685) B23(6.985,19.685) B24(8.255,19.685) B25(9.525,19.685) B26(10.795,19.685) B27(12.065,19.685) B28(13.335,19.685) B29(14.605,19.685) B30(15.875,19.685) B31(17.145,19.685) B32(18.415,19.685) B33(19.685,19.685) B34(20.955,19.685) C1(-20.955,18.415) C2(-19.685,18.415) C3(-18.415,18.415) C4(-17.145,18.415) C5(-15.875,18.415) C6(-14.605,18.415) C7(-13.335,18.415) C8(-12.065,18.415) C9(-10.795,18.415) C10(-9.525,18.415) C11(-8.255,18.415) C12(-6.985,18.415) C13(-5.715,18.415) C14(-4.445,18.415) C15(-3.175,18.415) C16(-1.905,18.415) C17(-0.635,18.415) C18(0.635,18.415) C19(1.905,18.415) C20(3.175,18.415) C21(4.445,18.415) C22(5.715,18.415) C23(6.985,18.415) C24(8.255,18.415) C25(9.525,18.415) C26(10.795,18.415) C27(12.065,18.415) C28(13.335,18.415) C29(14.605,18.415) C30(15.875,18.415) C31(17.145,18.415) C32(18.415,18.415) C33(19.685,18.415) C34(20.955,18.415) D1(-20.955,17.145) D2(-19.685,17.145) D3(-18.415,17.145) D4(-17.145,17.145) D5(-15.875,17.145) D6(-14.605,17.145) D7(-13.335,17.145) D8(-12.065,17.145) D9(-10.795,17.145) D10(-9.525,17.145) D11(-8.255,17.145) D12(-6.985,17.145) D13(-5.715,17.145) D14(-4.445,17.145) D15(-3.175,17.145) D16(-1.905,17.145) D17(-0.635,17.145) D18(0.635,17.145) D19(1.905,17.145) D20(3.175,17.145) D21(4.445,17.145) D22(5.715,17.145) D23(6.985,17.145) D24(8.255,17.145) D25(9.525,17.145) D26(10.795,17.145) D27(12.065,17.145) D28(13.335,17.145) D29(14.605,17.145) D30(15.875,17.145) D31(17.145,17.145) D32(18.415,17.145) D33(19.685,17.145) D34(20.955,17.145) E1(-20.955,15.875) E2(-19.685,15.875) E3(-18.415,15.875) E4(-17.145,15.875) E5(-15.875,15.875) E6(-14.605,15.875) E7(-13.335,15.875) E8(-12.065,15.875) E9(-10.795,15.875) E10(-9.525,15.875) E11(-8.255,15.875) E12(-6.985,15.875) E13(-5.715,15.875) E14(-4.445,15.875) E15(-3.175,15.875) E16(-1.905,15.875) E17(-0.635,15.875) E18(0.635,15.875) E19(1.905,15.875) E20(3.175,15.875) E21(4.445,15.875) E22(5.715,15.875) E23(6.985,15.875) E24(8.255,15.875) E25(9.525,15.875) E26(10.795,15.875) E27(12.065,15.875) E28(13.335,15.875) E29(14.605,15.875) E30(15.875,15.875) E31(17.145,15.875) E32(18.415,15.875) E33(19.685,15.875) E34(20.955,15.875) F1(-20.955,14.605) F2(-19.685,14.605) F3(-18.415,14.605) F4(-17.145,14.605) F5(-15.875,14.605) F6(-14.605,14.605) F7(-13.335,14.605) F8(-12.065,14.605) F9(-10.795,14.605) F10(-9.525,14.605) F11(-8.255,14.605) F12(-6.985,14.605) F13(-5.715,14.605) F14(-4.445,14.605) F15(-3.175,14.605) F16(-1.905,14.605) F17(-0.635,14.605) F18(0.635,14.605) F19(1.905,14.605) F20(3.175,14.605) F21(4.445,14.605) F22(5.715,14.605) F23(6.985,14.605) F24(8.255,14.605) F25(9.525,14.605) F26(10.795,14.605) F27(12.065,14.605) F28(13.335,14.605) F29(14.605,14.605) F30(15.875,14.605) F31(17.145,14.605) F32(18.415,14.605) F33(19.685,14.605) F34(20.955,14.605) G1(-20.955,13.335) G2(-19.685,13.335) G3(-18.415,13.335) G4(-17.145,13.335) G5(-15.875,13.335) G6(-14.605,13.335) G7(-13.335,13.335) G8(-12.065,13.335) G9(-10.795,13.335) G10(-9.525,13.335) G11(-8.255,13.335) G12(-6.985,13.335) G13(-5.715,13.335) G14(-4.445,13.335) G15(-3.175,13.335) G16(-1.905,13.335) G17(-0.635,13.335) G18(0.635,13.335) G19(1.905,13.335) G20(3.175,13.335) G21(4.445,13.335) G22(5.715,13.335) G23(6.985,13.335) G24(8.255,13.335) G25(9.525,13.335) G26(10.795,13.335) G27(12.065,13.335) G28(13.335,13.335) G29(14.605,13.335) G30(15.875,13.335) G31(17.145,13.335) G32(18.415,13.335) G33(19.685,13.335) G34(20.955,13.335) H1(-20.955,12.065) H2(-19.685,12.065) H3(-18.415,12.065) H4(-17.145,12.065) H5(-15.875,12.065) H6(-14.605,12.065) H7(-13.335,12.065) H8(-12.065,12.065) H9(-10.795,12.065) H10(-9.525,12.065) H11(-8.255,12.065) H12(-6.985,12.065) H13(-5.715,12.065) H14(-4.445,12.065) H15(-3.175,12.065) H16(-1.905,12.065) H17(-0.635,12.065) H18(0.635,12.065) H19(1.905,12.065) H20(3.175,12.065) H21(4.445,12.065) H22(5.715,12.065) H23(6.985,12.065) H24(8.255,12.065) H25(9.525,12.065) H26(10.795,12.065) H27(12.065,12.065) H28(13.335,12.065) H29(14.605,12.065) H30(15.875,12.065) H31(17.145,12.065) H32(18.415,12.065) H33(19.685,12.065) H34(20.955,12.065) J1(-20.955,10.795) J2(-19.685,10.795) J3(-18.415,10.795) J4(-17.145,10.795) J5(-15.875,10.795) J6(-14.605,10.795) J7(-13.335,10.795) J8(-12.065,10.795) J9(-10.795,10.795) J10(-9.525,10.795) J11(-8.255,10.795) J12(-6.985,10.795) J13(-5.715,10.795) J14(-4.445,10.795) J15(-3.175,10.795) J16(-1.905,10.795) J17(-0.635,10.795) J18(0.635,10.795) J19(1.905,10.795) J20(3.175,10.795) J21(4.445,10.795) J22(5.715,10.795) J23(6.985,10.795) J24(8.255,10.795) J25(9.525,10.795) J26(10.795,10.795) J27(12.065,10.795) J28(13.335,10.795) J29(14.605,10.795) J30(15.875,10.795) J31(17.145,10.795) J32(18.415,10.795) J33(19.685,10.795) J34(20.955,10.795) K1(-20.955,9.525) K2(-19.685,9.525) K3(-18.415,9.525) K4(-17.145,9.525) K5(-15.875,9.525) K6(-14.605,9.525) K7(-13.335,9.525) K8(-12.065,9.525) K9(-10.795,9.525) K10(-9.525,9.525) K11(-8.255,9.525) K12(-6.985,9.525) K13(-5.715,9.525) K14(-4.445,9.525) K15(-3.175,9.525) K16(-1.905,9.525) K17(-0.635,9.525) K18(0.635,9.525) K19(1.905,9.525) K20(3.175,9.525) K21(4.445,9.525) K22(5.715,9.525) K23(6.985,9.525) K24(8.255,9.525) K25(9.525,9.525) K26(10.795,9.525) K27(12.065,9.525) K28(13.335,9.525) K29(14.605,9.525) K30(15.875,9.525) K31(17.145,9.525) K32(18.415,9.525) K33(19.685,9.525) K34(20.955,9.525) L1(-20.955,8.255) L2(-19.685,8.255) L3(-18.415,8.255) L4(-17.145,8.255) L5(-15.875,8.255) L6(-14.605,8.255) L7(-13.335,8.255) L8(-12.065,8.255) L9(-10.795,8.255) L10(-9.525,8.255) L11(-8.255,8.255) L12(-6.985,8.255) L13(-5.715,8.255) L14(-4.445,8.255) L15(-3.175,8.255) L16(-1.905,8.255) L17(-0.635,8.255) L18(0.635,8.255) L19(1.905,8.255) L20(3.175,8.255) L21(4.445,8.255) L22(5.715,8.255) L23(6.985,8.255) L24(8.255,8.255) L25(9.525,8.255) L26(10.795,8.255) L27(12.065,8.255) L28(13.335,8.255) L29(14.605,8.255) L30(15.875,8.255) L31(17.145,8.255) L32(18.415,8.255) L33(19.685,8.255) L34(20.955,8.255) M1(-20.955,6.985) M2(-19.685,6.985) M3(-18.415,6.985) M4(-17.145,6.985) M5(-15.875,6.985) M6(-14.605,6.985) M7(-13.335,6.985) M8(-12.065,6.985) M9(-10.795,6.985) M10(-9.525,6.985) M11(-8.255,6.985) M12(-6.985,6.985) M13(-5.715,6.985) M14(-4.445,6.985) M15(-3.175,6.985) M16(-1.905,6.985) M17(-0.635,6.985) M18(0.635,6.985) M19(1.905,6.985) M20(3.175,6.985) M21(4.445,6.985) M22(5.715,6.985) M23(6.985,6.985) M24(8.255,6.985) M25(9.525,6.985) M26(10.795,6.985) M27(12.065,6.985) M28(13.335,6.985) M29(14.605,6.985) M30(15.875,6.985) M31(17.145,6.985) M32(18.415,6.985) M33(19.685,6.985) M34(20.955,6.985) N1(-20.955,5.715) N2(-19.685,5.715) N3(-18.415,5.715) N4(-17.145,5.715) N5(-15.875,5.715) N6(-14.605,5.715) N7(-13.335,5.715) N8(-12.065,5.715) N9(-10.795,5.715) N10(-9.525,5.715) N11(-8.255,5.715) N12(-6.985,5.715) N13(-5.715,5.715) N14(-4.445,5.715) N15(-3.175,5.715) N16(-1.905,5.715) N17(-0.635,5.715) N18(0.635,5.715) N19(1.905,5.715) N20(3.175,5.715) N21(4.445,5.715) N22(5.715,5.715) N23(6.985,5.715) N24(8.255,5.715) N25(9.525,5.715) N26(10.795,5.715) N27(12.065,5.715) N28(13.335,5.715) N29(14.605,5.715) N30(15.875,5.715) N31(17.145,5.715) N32(18.415,5.715) N33(19.685,5.715) N34(20.955,5.715) P1(-20.955,4.445) P2(-19.685,4.445) P3(-18.415,4.445) P4(-17.145,4.445) P5(-15.875,4.445) P6(-14.605,4.445) P7(-13.335,4.445) P8(-12.065,4.445) P9(-10.795,4.445) P10(-9.525,4.445) P11(-8.255,4.445) P12(-6.985,4.445) P13(-5.715,4.445) P14(-4.445,4.445) P15(-3.175,4.445) P16(-1.905,4.445) P17(-0.635,4.445) P18(0.635,4.445) P19(1.905,4.445) P20(3.175,4.445) P21(4.445,4.445) P22(5.715,4.445) P23(6.985,4.445) P24(8.255,4.445) P25(9.525,4.445) P26(10.795,4.445) P27(12.065,4.445) P28(13.335,4.445) P29(14.605,4.445) P30(15.875,4.445) P31(17.145,4.445) P32(18.415,4.445) P33(19.685,4.445) P34(20.955,4.445) R1(-20.955,3.175) R2(-19.685,3.175) R3(-18.415,3.175) R4(-17.145,3.175) R5(-15.875,3.175) R6(-14.605,3.175) R7(-13.335,3.175) R8(-12.065,3.175) R9(-10.795,3.175) R10(-9.525,3.175) R11(-8.255,3.175) R12(-6.985,3.175) R13(-5.715,3.175) R14(-4.445,3.175) R15(-3.175,3.175) R16(-1.905,3.175) R17(-0.635,3.175) R18(0.635,3.175) R19(1.905,3.175) R20(3.175,3.175) R21(4.445,3.175) R22(5.715,3.175) R23(6.985,3.175) R24(8.255,3.175) R25(9.525,3.175) R26(10.795,3.175) R27(12.065,3.175) R28(13.335,3.175) R29(14.605,3.175) R30(15.875,3.175) R31(17.145,3.175) R32(18.415,3.175) R33(19.685,3.175) R34(20.955,3.175) T1(-20.955,1.905) T2(-19.685,1.905) T3(-18.415,1.905) T4(-17.145,1.905) T5(-15.875,1.905) T6(-14.605,1.905) T7(-13.335,1.905) T8(-12.065,1.905) T9(-10.795,1.905) T10(-9.525,1.905) T11(-8.255,1.905) T12(-6.985,1.905) T13(-5.715,1.905) T14(-4.445,1.905) T15(-3.175,1.905) T16(-1.905,1.905) T17(-0.635,1.905) T18(0.635,1.905) T19(1.905,1.905) T20(3.175,1.905) T21(4.445,1.905) T22(5.715,1.905) T23(6.985,1.905) T24(8.255,1.905) T25(9.525,1.905) T26(10.795,1.905) T27(12.065,1.905) T28(13.335,1.905) T29(14.605,1.905) T30(15.875,1.905) T31(17.145,1.905) T32(18.415,1.905) T33(19.685,1.905) T34(20.955,1.905) U1(-20.955,0.635) U2(-19.685,0.635) U3(-18.415,0.635) U4(-17.145,0.635) U5(-15.875,0.635) U6(-14.605,0.635) U7(-13.335,0.635) U8(-12.065,0.635) U9(-10.795,0.635) U10(-9.525,0.635) U11(-8.255,0.635) U12(-6.985,0.635) U13(-5.715,0.635) U14(-4.445,0.635) U15(-3.175,0.635) U16(-1.905,0.635) U17(-0.635,0.635) U18(0.635,0.635) U19(1.905,0.635) U20(3.175,0.635) U21(4.445,0.635) U22(5.715,0.635) U23(6.985,0.635) U24(8.255,0.635) U25(9.525,0.635) U26(10.795,0.635) U27(12.065,0.635) U28(13.335,0.635) U29(14.605,0.635) U30(15.875,0.635) U31(17.145,0.635) U32(18.415,0.635) U33(19.685,0.635) U34(20.955,0.635) V1(-20.955,-0.635) V2(-19.685,-0.635) V3(-18.415,-0.635) V4(-17.145,-0.635) V5(-15.875,-0.635) V6(-14.605,-0.635) V7(-13.335,-0.635) V8(-12.065,-0.635) V9(-10.795,-0.635) V10(-9.525,-0.635) V11(-8.255,-0.635) V12(-6.985,-0.635) V13(-5.715,-0.635) V14(-4.445,-0.635) V15(-3.175,-0.635) V16(-1.905,-0.635) V17(-0.635,-0.635) V18(0.635,-0.635) V19(1.905,-0.635) V20(3.175,-0.635) V21(4.445,-0.635) V22(5.715,-0.635) V23(6.985,-0.635) V24(8.255,-0.635) V25(9.525,-0.635) V26(10.795,-0.635) V27(12.065,-0.635) V28(13.335,-0.635) V29(14.605,-0.635) V30(15.875,-0.635) V31(17.145,-0.635) V32(18.415,-0.635) V33(19.685,-0.635) V34(20.955,-0.635) W1(-20.955,-1.905) W2(-19.685,-1.905) W3(-18.415,-1.905) W4(-17.145,-1.905) W5(-15.875,-1.905) W6(-14.605,-1.905) W7(-13.335,-1.905) W8(-12.065,-1.905) W9(-10.795,-1.905) W10(-9.525,-1.905) W11(-8.255,-1.905) W12(-6.985,-1.905) W13(-5.715,-1.905) W14(-4.445,-1.905) W15(-3.175,-1.905) W16(-1.905,-1.905) W17(-0.635,-1.905) W18(0.635,-1.905) W19(1.905,-1.905) W20(3.175,-1.905) W21(4.445,-1.905) W22(5.715,-1.905) W23(6.985,-1.905) W24(8.255,-1.905) W25(9.525,-1.905) W26(10.795,-1.905) W27(12.065,-1.905) W28(13.335,-1.905) W29(14.605,-1.905) W30(15.875,-1.905) W31(17.145,-1.905) W32(18.415,-1.905) W33(19.685,-1.905) W34(20.955,-1.905) Y1(-20.955,-3.175) Y2(-19.685,-3.175) Y3(-18.415,-3.175) Y4(-17.145,-3.175) Y5(-15.875,-3.175) Y6(-14.605,-3.175) Y7(-13.335,-3.175) Y8(-12.065,-3.175) Y9(-10.795,-3.175) Y10(-9.525,-3.175) Y11(-8.255,-3.175) Y12(-6.985,-3.175) Y13(-5.715,-3.175) Y14(-4.445,-3.175) Y15(-3.175,-3.175) Y16(-1.905,-3.175) Y17(-0.635,-3.175) Y18(0.635,-3.175) Y19(1.905,-3.175) Y20(3.175,-3.175) Y21(4.445,-3.175) Y22(5.715,-3.175) Y23(6.985,-3.175) Y24(8.255,-3.175) Y25(9.525,-3.175) Y26(10.795,-3.175) Y27(12.065,-3.175) Y28(13.335,-3.175) Y29(14.605,-3.175) Y30(15.875,-3.175) Y31(17.145,-3.175) Y32(18.415,-3.175) Y33(19.685,-3.175) Y34(20.955,-3.175)
Top Overlay:
  circle w0.25: c-23.16,20.955 r0.125
  lines w0.2: -22.505,-21.495 -22.505,22.505 21.495,22.505 22.495,21.505 22.495,-21.495 21.495,-22.495 -21.505,-22.495 -22.505,-21.495